# Altium schematic symbol library WE-MI.SchLib: 69 symbols (part 2 of 2)
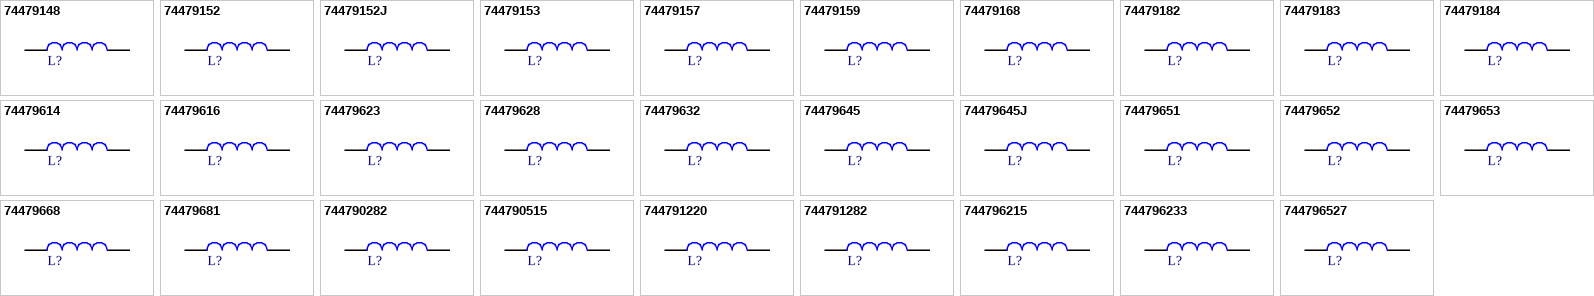
[diagram p2: symbols 74479148 to 744796527]

## 744791220
designator L?, comment 0.22µH  (value not drawn)
WE-MI SMT Multilayer Inductor, size 1206, 0.22µH, 250mA, 0.4Ω; Manufacturer Part Number: 744791220; Manufacturer: Wurth Elektronik; Case/Size Code: 1206; Q Factor: 20; ComponentLink1Description: Manufacturer Link; ComponentLink1URL: https://www.we-online.com/redexpert/article/744791220?ad; ComponentLink2Description: Datasheet; ComponentLink2URL: https://www.we-online.com/redexpert/spec/744791220?ad; Category: Filter Chokes; Match Code: WE-MI; Mount: Surface Mount; Operating Temperature Max: 125°C; Operating Temperature Min: -55°C; Packaging: Tape and Reel; Length: 3.2mm; Width: 1.6mm; Height: 1.1mm; DC Resistance Max: 0.4Ω; Inductance: 0.22µH; Rated Current: 250mA
footprint WE-MI_1206_L3.2W1.6H1.1
pins: 1, 2

## 744791282
designator L?, comment 8.2µH  (value not drawn)
WE-MI SMT Multilayer Inductor, size 1206, 8.2µH, 25mA, 0.9Ω; Manufacturer Part Number: 744791282; Manufacturer: Wurth Elektronik; Case/Size Code: 1206; Q Factor: 50; ComponentLink1Description: Manufacturer Link; ComponentLink1URL: https://www.we-online.com/redexpert/article/744791282?ad; ComponentLink2Description: Datasheet; ComponentLink2URL: https://www.we-online.com/redexpert/spec/744791282?ad; Category: Filter Chokes; Match Code: WE-MI; Mount: Surface Mount; Operating Temperature Max: 125°C; Operating Temperature Min: -55°C; Packaging: Tape and Reel; Length: 3.2mm; Width: 1.6mm; Height: 1.1mm; DC Resistance Max: 0.9Ω; Inductance: 8.2µH; Rated Current: 25mA
footprint WE-MI_1206_L3.2W1.6H1.1
pins: 1, 2

## 744796215
designator L?, comment 1.5µH  (value not drawn)
WE-MI SMT Multilayer Inductor, size 0603, 1.5µH, 25mA, 0.8Ω; Manufacturer Part Number: 744796215; Manufacturer: Wurth Elektronik; Case/Size Code: 0603; Q Factor: 35; ComponentLink1Description: Manufacturer Link; ComponentLink1URL: https://www.we-online.com/redexpert/article/744796215?ad; ComponentLink2Description: Datasheet; ComponentLink2URL: https://www.we-online.com/redexpert/spec/744796215?ad; Category: Filter Chokes; Match Code: WE-MI; Mount: Surface Mount; Operating Temperature Max: 125°C; Operating Temperature Min: -55°C; Packaging: Tape and Reel; Length: 1.6mm; Width: 0.8mm; Height: 0.8mm; DC Resistance Max: 0.8Ω; Inductance: 1.5µH; Rated Current: 25mA
footprint WE-MI_0603_L1.6W0.8H0.8
pins: 1, 2

## 744796233
designator L?, comment 0.33µH  (value not drawn)
WE-MI SMT Multilayer Inductor, size 0603, 0.33µH, 35mA, 0.8Ω; Manufacturer Part Number: 744796233; Manufacturer: Wurth Elektronik; Case/Size Code: 0603; Q Factor: 15; ComponentLink1Description: Manufacturer Link; ComponentLink1URL: https://www.we-online.com/redexpert/article/744796233?ad; ComponentLink2Description: Datasheet; ComponentLink2URL: https://www.we-online.com/redexpert/spec/744796233?ad; Category: Filter Chokes; Match Code: WE-MI; Mount: Surface Mount; Operating Temperature Max: 125°C; Operating Temperature Min: -55°C; Packaging: Tape and Reel; Length: 1.6mm; Width: 0.8mm; Height: 0.8mm; DC Resistance Max: 0.8Ω; Inductance: 0.33µH; Rated Current: 35mA
footprint WE-MI_0603_L1.6W0.8H0.8
pins: 1, 2

## 744796527
designator L?, comment 2.7µH  (value not drawn)
WE-MI SMT Multilayer Inductor, size 0603, 2.7µH, 15mA, 1Ω; Manufacturer Part Number: 744796527; Manufacturer: Wurth Elektronik; Case/Size Code: 0603; Q Factor: 35; ComponentLink1Description: Manufacturer Link; ComponentLink1URL: https://www.we-online.com/redexpert/article/744796527?ad; ComponentLink2Description: Datasheet; ComponentLink2URL: https://www.we-online.com/redexpert/spec/744796527?ad; Category: Filter Chokes; Match Code: WE-MI; Mount: Surface Mount; Operating Temperature Max: 125°C; Operating Temperature Min: -55°C; Packaging: Tape and Reel; Length: 1.6mm; Width: 0.8mm; Height: 0.8mm; DC Resistance Max: 1Ω; Inductance: 2.7µH; Rated Current: 15mA
footprint WE-MI_0603_L1.6W0.8H0.8
pins: 1, 2